# Altium schematic symbol library RP73D1J37K4BTDG.SchLib: 1 symbol
Pins are listed as number, name and electrical type; pins without a type are passive.

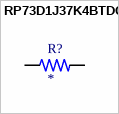
[diagram p0: symbol RP73D1J37K4BTDG]

## RP73D1J37K4BTDG
designator R?
MF: {'manufacturer': u'TE Connectivity / Holsworthy'}; MP: RP73D1J37K4BTDG; Package: None; Price: None; Value: *; Availability: Unavailable
footprint RESC1608X50N
pins: 1, 2